# EAGLE library part TI-RS485-ISO15 (library Pygmy)
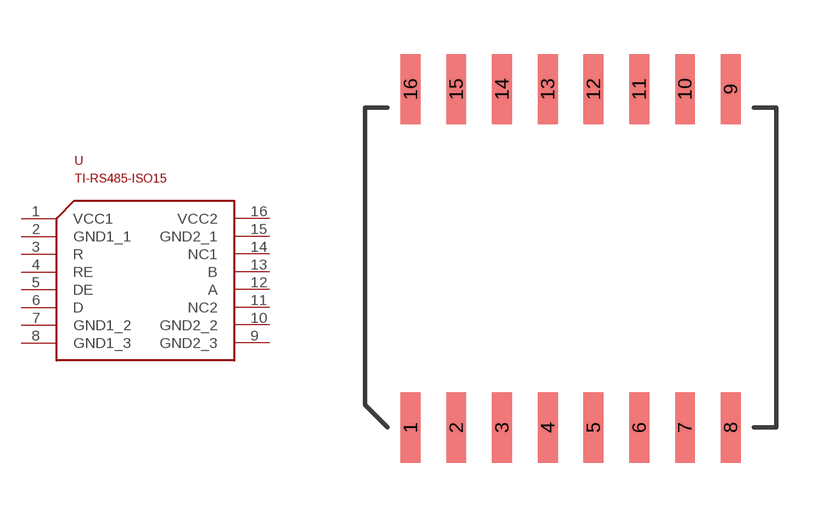
[diagram p75: symbol with the pads of R-PDSO-G16; footprint R-PDSO-G16]

Designator prefix -

## TI-RS485-ISO15  [R-PDSO-G16]
1  VCC1
2  GND1_1
3  R
4  RE
5  DE
6  D
7  GND1_2
8  GND1_3
9  GND2_3
10  GND2_2
11  NC2
12  A
13  B
14  NC1
15  GND2_1
16  VCC2

## Footprint R-PDSO-G16 (pad centres in mm)
smd 0.55 x 1.95: 1 0,0; 2 1.27,0; 3 2.54,0; 4 3.81,0; 5 5.08,0; 6 6.35,0; 7 7.62,0; 8 8.89,0; 9 8.89,9.4; 10 7.62,9.4; 11 6.35,9.4; 12 5.08,9.4; 13 3.81,9.4; 14 2.54,9.4; 15 1.27,9.4; 16 0,9.4